# Altium integrated library BB Isolation Amplifier.IntLib: 29 symbols
Pins are listed as number, name and electrical type; pins without a type are passive.

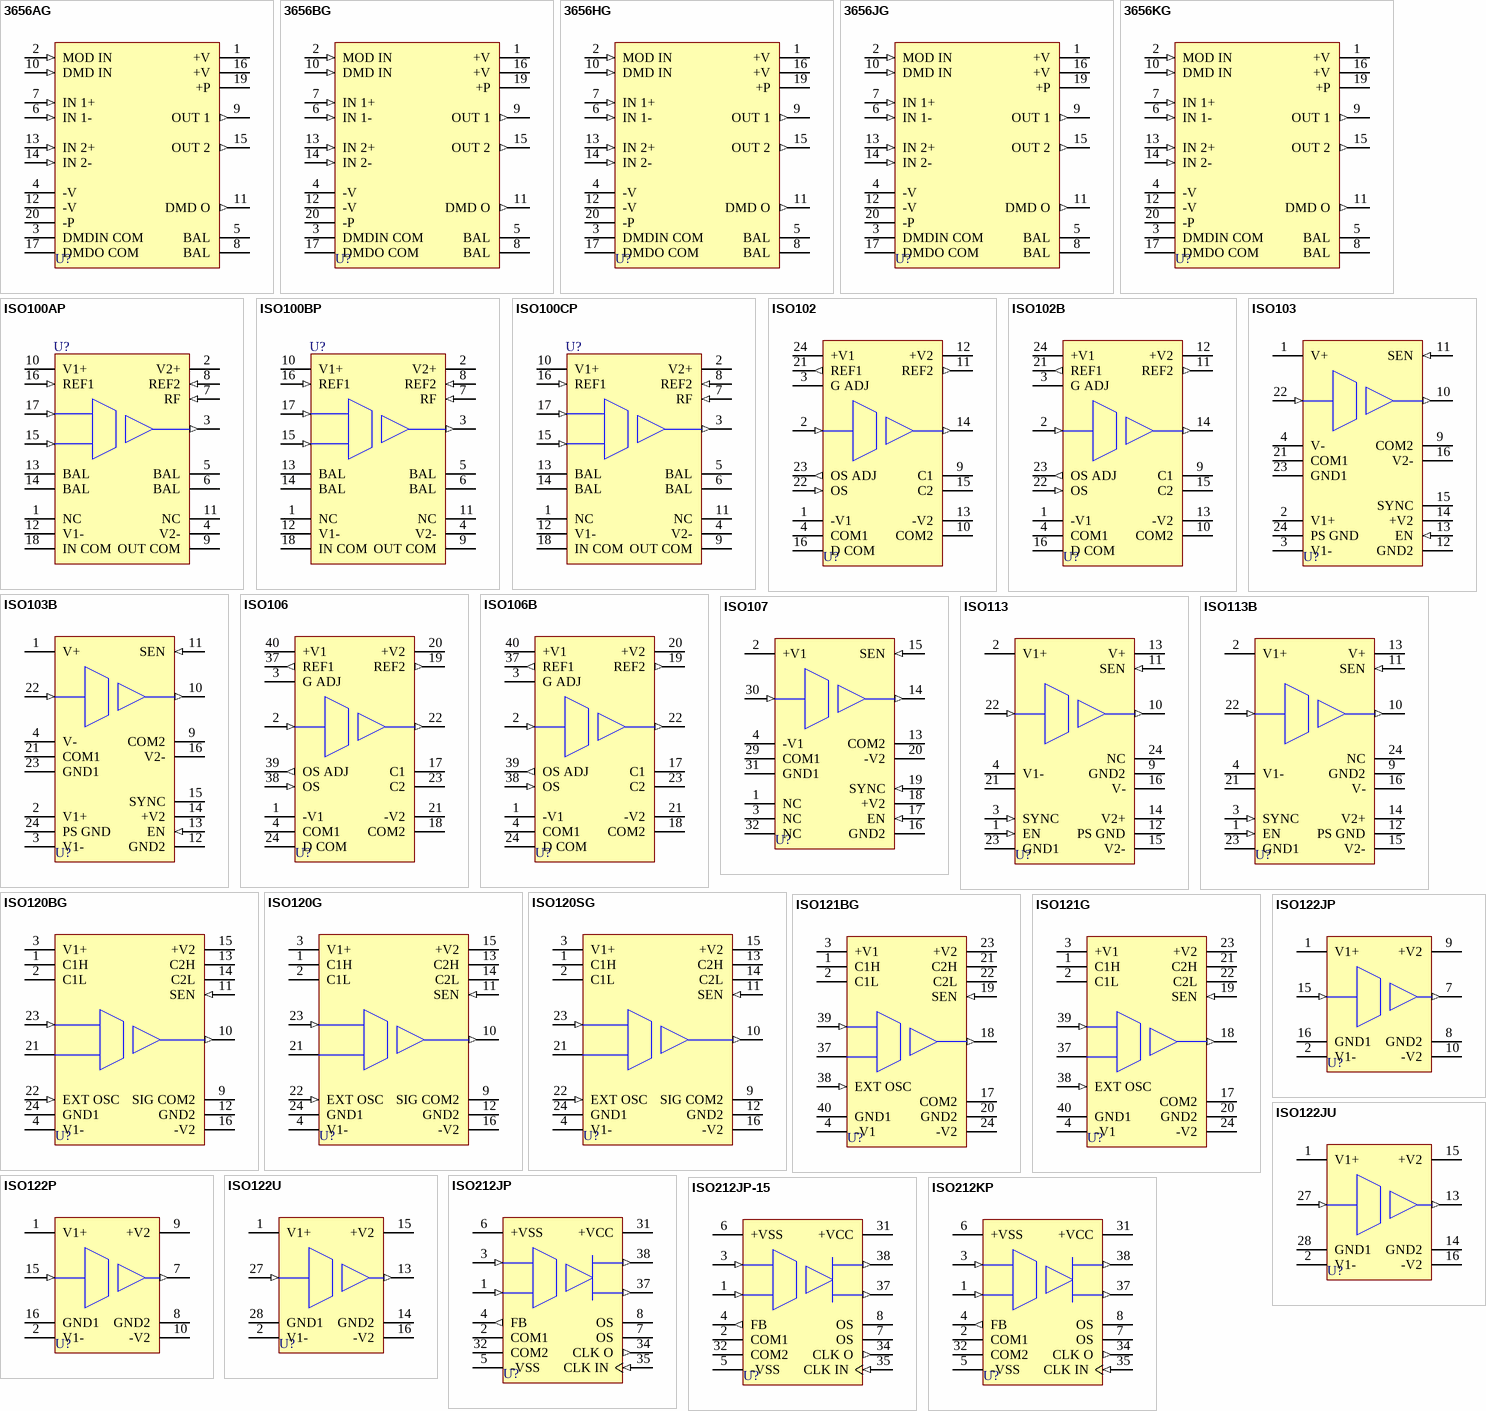
[diagram p0: symbols 3656AG to ISO212KP]

## 3656AG
designator U?
Transformer Coupled Isolation Amplifier; Note: No pin present at position 18.; Published: 8-Jun-2000; LatestRevisionDate: 17-Jul-2002; LatestRevisionNote: Re-released for DXP Platform.; DatasheetVersion: Jan-1997; PackageVersion: revA; PackageReference: ZZ102; Publisher: Altium Limited; PackageDescription: DIP; 20 Round Pins; Row Space 22.86 mm; Pitch 2.54 mm; ComponentLink1Description: Manufacturer Link; ComponentLink1URL: http://www.ti.com/
footprint ZZ102 (DIP; 20 Round Pins; Row Space 22.86 mm; Pitch 2.54 mm)
pins: 1 +V (power), 2 MOD IN (in), 3 DMDIN COM (power), 4 -V (power), 5 BAL, 6 IN 1- (in), 7 IN 1+ (in), 8 BAL, 9 OUT 1 (out), 10 DMD IN (in), 11 DMD O (out), 12 -V (power), 13 IN 2+ (in), 14 IN 2- (in), 15 OUT 2 (out), 16 +V (power), 17 DMDO COM (power), 19 +P (power), 20 -P (power)

## 3656BG
designator U?
Transformer Coupled Isolation Amplifier; Note: No pin present at position 18.; Published: 8-Jun-2000; LatestRevisionDate: 17-Jul-2002; LatestRevisionNote: Re-released for DXP Platform.; DatasheetVersion: Jan-1997; PackageVersion: revA; PackageReference: ZZ102; Publisher: Altium Limited; PackageDescription: DIP; 20 Round Pins; Row Space 22.86 mm; Pitch 2.54 mm; ComponentLink1Description: Manufacturer Link; ComponentLink1URL: http://www.ti.com/
footprint ZZ102 (DIP; 20 Round Pins; Row Space 22.86 mm; Pitch 2.54 mm)
pins: 1 +V (power), 2 MOD IN (in), 3 DMDIN COM (power), 4 -V (power), 5 BAL, 6 IN 1- (in), 7 IN 1+ (in), 8 BAL, 9 OUT 1 (out), 10 DMD IN (in), 11 DMD O (out), 12 -V (power), 13 IN 2+ (in), 14 IN 2- (in), 15 OUT 2 (out), 16 +V (power), 17 DMDO COM (power), 19 +P (power), 20 -P (power)

## 3656HG
designator U?
Transformer Coupled Isolation Amplifier; Note: No pin present at position 18.; Published: 8-Jun-2000; LatestRevisionDate: 17-Jul-2002; LatestRevisionNote: Re-released for DXP Platform.; DatasheetVersion: Jan-1997; PackageVersion: revA; PackageReference: ZZ102; Publisher: Altium Limited; PackageDescription: DIP; 20 Round Pins; Row Space 22.86 mm; Pitch 2.54 mm; ComponentLink1Description: Manufacturer Link; ComponentLink1URL: http://www.ti.com/
footprint ZZ102 (DIP; 20 Round Pins; Row Space 22.86 mm; Pitch 2.54 mm)
pins: 1 +V (power), 2 MOD IN (in), 3 DMDIN COM (power), 4 -V (power), 5 BAL, 6 IN 1- (in), 7 IN 1+ (in), 8 BAL, 9 OUT 1 (out), 10 DMD IN (in), 11 DMD O (out), 12 -V (power), 13 IN 2+ (in), 14 IN 2- (in), 15 OUT 2 (out), 16 +V (power), 17 DMDO COM (power), 19 +P (power), 20 -P (power)

## 3656JG
designator U?
Transformer Coupled Isolation Amplifier; Note: No pin present at position 18.; Published: 8-Jun-2000; LatestRevisionDate: 17-Jul-2002; LatestRevisionNote: Re-released for DXP Platform.; DatasheetVersion: Jan-1997; PackageVersion: revA; PackageReference: ZZ102; Publisher: Altium Limited; PackageDescription: DIP; 20 Round Pins; Row Space 22.86 mm; Pitch 2.54 mm; ComponentLink1Description: Manufacturer Link; ComponentLink1URL: http://www.ti.com/
footprint ZZ102 (DIP; 20 Round Pins; Row Space 22.86 mm; Pitch 2.54 mm)
pins: 1 +V (power), 2 MOD IN (in), 3 DMDIN COM (power), 4 -V (power), 5 BAL, 6 IN 1- (in), 7 IN 1+ (in), 8 BAL, 9 OUT 1 (out), 10 DMD IN (in), 11 DMD O (out), 12 -V (power), 13 IN 2+ (in), 14 IN 2- (in), 15 OUT 2 (out), 16 +V (power), 17 DMDO COM (power), 19 +P (power), 20 -P (power)

## 3656KG
designator U?
Transformer Coupled Isolation Amplifier; Note: No pin present at position 18.; Published: 8-Jun-2000; LatestRevisionDate: 17-Jul-2002; LatestRevisionNote: Re-released for DXP Platform.; DatasheetVersion: Jan-1997; PackageVersion: revA; PackageReference: ZZ102; Publisher: Altium Limited; PackageDescription: DIP; 20 Round Pins; Row Space 22.86 mm; Pitch 2.54 mm; ComponentLink1Description: Manufacturer Link; ComponentLink1URL: http://www.ti.com/
footprint ZZ102 (DIP; 20 Round Pins; Row Space 22.86 mm; Pitch 2.54 mm)
pins: 1 +V (power), 2 MOD IN (in), 3 DMDIN COM (power), 4 -V (power), 5 BAL, 6 IN 1- (in), 7 IN 1+ (in), 8 BAL, 9 OUT 1 (out), 10 DMD IN (in), 11 DMD O (out), 12 -V (power), 13 IN 2+ (in), 14 IN 2- (in), 15 OUT 2 (out), 16 +V (power), 17 DMDO COM (power), 19 +P (power), 20 -P (power)

## ISO100AP
designator U?
Optically-Coupled Linear Isolation Amplifier; Note: Pins 1 and 11 are No Connect (NC) pins.; Published: 8-Jun-2000; LatestRevisionDate: 17-Jul-2002; LatestRevisionNote: Re-released for DXP Platform.; DatasheetVersion: Aug-1997; PackageVersion: revC; PackageReference: ZZ220; Publisher: Altium Limited; PackageDescription: DIP; 18 Rectangular Pins; Row Space 7.62 mm; Pitch 2.54 mm; ComponentLink1Description: Manufacturer Link; ComponentLink1URL: http://www.ti.com/; ComponentLink2Description: Datasheet; ComponentLink2URL: http://www-s.ti.com/sc/ds/ISO100.pdf
footprint ZZ220 (DIP; 18 Rectangular Pins; Row Space 7.62 mm; Pitch 2.54 mm)
pins: 1 NC, 2 V2+ (power), 3 OUT (out), 4 V2- (power), 5 BAL, 6 BAL, 7 RF (in), 8 REF2 (in), 9 OUT COM (power), 10 V1+ (power), 11 NC, 12 V1- (power), 13 BAL, 14 BAL, 15 IN+ (in), 16 REF1 (in), 17 IN- (in), 18 IN COM (power)

## ISO100BP
designator U?
Optically-Coupled Linear Isolation Amplifier; Note: Pins 1 and 11 are No Connect (NC) pins.; Published: 8-Jun-2000; LatestRevisionDate: 17-Jul-2002; LatestRevisionNote: Re-released for DXP Platform.; DatasheetVersion: Aug-1997; PackageVersion: revC; PackageReference: ZZ220; Publisher: Altium Limited; PackageDescription: DIP; 18 Rectangular Pins; Row Space 7.62 mm; Pitch 2.54 mm; ComponentLink1Description: Manufacturer Link; ComponentLink1URL: http://www.ti.com/; ComponentLink2Description: Datasheet; ComponentLink2URL: http://www-s.ti.com/sc/ds/ISO100.pdf
footprint ZZ220 (DIP; 18 Rectangular Pins; Row Space 7.62 mm; Pitch 2.54 mm)
pins: 1 NC, 2 V2+ (power), 3 OUT (out), 4 V2- (power), 5 BAL, 6 BAL, 7 RF (in), 8 REF2 (in), 9 OUT COM (power), 10 V1+ (power), 11 NC, 12 V1- (power), 13 BAL, 14 BAL, 15 IN+ (in), 16 REF1 (in), 17 IN- (in), 18 IN COM (power)

## ISO100CP
designator U?
Optically-Coupled Linear Isolation Amplifier; Note: Pins 1 and 11 are No Connect (NC) pins.; Published: 8-Jun-2000; LatestRevisionDate: 17-Jul-2002; LatestRevisionNote: Re-released for DXP Platform.; DatasheetVersion: Aug-1997; PackageVersion: revC; PackageReference: ZZ220; Publisher: Altium Limited; PackageDescription: DIP; 18 Rectangular Pins; Row Space 7.62 mm; Pitch 2.54 mm; ComponentLink1Description: Manufacturer Link; ComponentLink1URL: http://www.ti.com/; ComponentLink2Description: Datasheet; ComponentLink2URL: http://www-s.ti.com/sc/ds/ISO100.pdf
footprint ZZ220 (DIP; 18 Rectangular Pins; Row Space 7.62 mm; Pitch 2.54 mm)
pins: 1 NC, 2 V2+ (power), 3 OUT (out), 4 V2- (power), 5 BAL, 6 BAL, 7 RF (in), 8 REF2 (in), 9 OUT COM (power), 10 V1+ (power), 11 NC, 12 V1- (power), 13 BAL, 14 BAL, 15 IN+ (in), 16 REF1 (in), 17 IN- (in), 18 IN COM (power)

## ISO102
designator U?
Signal Isolation Buffer Amplifier; Note: No pins present at positions 5 to 8 and 17 to 20.; Published: 8-Jun-2000; LatestRevisionDate: 06-Jun-2005; LatestRevisionNote: Stylized 3D Model Added.; DatasheetVersion: Jan-1995; PackageVersion: revC; PackageReference: 208C; Publisher: Altium Limited; PackageDescription: DIP; 24 Leads (8 Absent); Row Spacing 15.24 mm; Pitch 2.54 mm; ComponentLink1Description: Manufacturer Link; ComponentLink1URL: http://www.ti.com/; ComponentLink2Description: Datasheet; ComponentLink2URL: http://www-s.ti.com/sc/ds/ISO102.pdf
footprint 208C (DIP; 24 Leads (8 Absent); Row Spacing 15.24 mm; Pitch 2.54 mm)
3D model 208 (DIP; 24 Leads (8 Absent); Row Spacing 15.24 mm; Pitch 2.54 mm)
pins: 1 -V1 (power), 2 IN (in), 3 G ADJ, 4 COM1 (power), 9 C1, 10 COM2 (power), 11 REF2 (out), 12 +V2 (power), 13 -V2 (power), 14 OUT (out), 15 C2, 16 D COM (power), 21 REF1 (out), 22 OS (in), 23 OS ADJ (out), 24 +V1 (power)

## ISO102B
designator U?
Signal Isolation Buffer Amplifier; Note: No pins present at positions 5 to 8 and 17 to 20.; Published: 8-Jun-2000; LatestRevisionDate: 06-Jun-2005; LatestRevisionNote: Stylized 3D Model Added.; DatasheetVersion: Jan-1995; PackageVersion: revC; PackageReference: 208C; Publisher: Altium Limited; PackageDescription: DIP; 24 Leads (8 Absent); Row Spacing 15.24 mm; Pitch 2.54 mm; ComponentLink1Description: Manufacturer Link; ComponentLink1URL: http://www.ti.com/; ComponentLink2Description: Datasheet; ComponentLink2URL: http://www-s.ti.com/sc/ds/ISO102.pdf
footprint 208C (DIP; 24 Leads (8 Absent); Row Spacing 15.24 mm; Pitch 2.54 mm)
3D model 208 (DIP; 24 Leads (8 Absent); Row Spacing 15.24 mm; Pitch 2.54 mm)
pins: 1 -V1 (power), 2 IN (in), 3 G ADJ, 4 COM1 (power), 9 C1, 10 COM2 (power), 11 REF2 (out), 12 +V2 (power), 13 -V2 (power), 14 OUT (out), 15 C2, 16 D COM (power), 21 REF1 (out), 22 OS (in), 23 OS ADJ (out), 24 +V1 (power)

## ISO103
designator U?
Low-Cost, Internally Powered Isolation Amplifier; Note: No pins present at positions 5 to 8 and 17 to 20.; Published: 8-Jun-2000; LatestRevisionDate: 06-Jun-2005; LatestRevisionNote: Stylized 3D Model Added.; DatasheetVersion: Aug-1999; PackageVersion: revE; PackageReference: 231E; Publisher: Altium Limited; PackageDescription: DIP; 24 Leads (8 Absent); Row Spacing 15.24 mm; Pitch 2.54 mm; ComponentLink1Description: Manufacturer Link; ComponentLink1URL: http://www.ti.com/; ComponentLink2Description: Datasheet; ComponentLink2URL: http://www-s.ti.com/sc/ds/ISO103.pdf
footprint 231E (DIP; 24 Leads (8 Absent); Row Spacing 15.24 mm; Pitch 2.54 mm)
3D model 231E (DIP; 24 Leads (8 Absent); Row Spacing 15.24 mm; Pitch 2.54 mm)
pins: 1 V+ (power), 2 V1+ (power), 3 V1- (power), 4 V- (power), 9 COM2 (power), 10 OUT (out), 11 SEN (in), 12 GND2 (power), 13 EN (in), 14 +V2 (power), 15 SYNC, 16 V2- (power), 21 COM1 (power), 22 IN (in), 23 GND1 (power), 24 PS GND (power)

## ISO103B
designator U?
Low-Cost, Internally Powered Isolation Amplifier; Note: No pins present at positions 5 to 8 and 17 to 20.; ComponentAvailability: Not for New Design; Published: 8-Jun-2000; LatestRevisionDate: 06-Jun-2005; LatestRevisionNote: Stylized 3D Model Added.; DatasheetVersion: 1994; PackageVersion: revE; PackageReference: 231E; Publisher: Altium Limited; PackageDescription: DIP; 24 Leads (8 Absent); Row Spacing 15.24 mm; Pitch 2.54 mm; ComponentLink1Description: Manufacturer Link; ComponentLink1URL: http://www.ti.com/; ComponentLink2Description: Datasheet; ComponentLink2URL: http://www-s.ti.com/sc/ds/iso103.pdf
footprint 231E (DIP; 24 Leads (8 Absent); Row Spacing 15.24 mm; Pitch 2.54 mm)
3D model 231E (DIP; 24 Leads (8 Absent); Row Spacing 15.24 mm; Pitch 2.54 mm)
pins: 1 V+ (power), 2 V1+ (power), 3 V1- (power), 4 V- (power), 9 COM2 (power), 10 OUT (out), 11 SEN (in), 12 GND2 (power), 13 EN (in), 14 +V2 (power), 15 SYNC, 16 V2- (power), 21 COM1 (power), 22 IN (in), 23 GND1 (power), 24 PS GND (power)

## ISO106
designator U?
Signal Isolation Buffer Amplifier; Note: No pins present at positions 5 to 16 and 25 to 36.; Published: 8-Jun-2000; LatestRevisionDate: 06-Jun-2005; LatestRevisionNote: Stylized 3D Model Added.; DatasheetVersion: Jan-1995; PackageVersion: revC; PackageReference: ZZ206; Publisher: Altium Limited; PackageDescription: DIP; 40 Leads (24 Absent); Row Spacing 15.24 mm; Pitch 2.54 mm; Code_JEDEC: MO-038-AC*; ComponentLink1Description: Manufacturer Link; ComponentLink1URL: http://www.ti.com/; ComponentLink2Description: Datasheet; ComponentLink2URL: http://www-s.ti.com/sc/ds/ISO102.pdf
footprint ZZ206 (DIP; 40 Leads (24 Absent); Row Spacing 15.24 mm; Pitch 2.54 mm)
3D model ZZ206 (DIP; 40 Leads (24 Absent); Row Spacing 15.24 mm; Pitch 2.54 mm)
pins: 1 -V1 (power), 2 IN (in), 3 G ADJ, 4 COM1 (power), 17 C1, 18 COM2 (power), 19 REF2 (out), 20 +V2 (power), 21 -V2 (power), 22 OUT (out), 23 C2, 24 D COM (power), 37 REF1 (out), 38 OS (in), 39 OS ADJ (out), 40 +V1 (power)

## ISO106B
designator U?
Signal Isolation Buffer Amplifier; Note: No pins present at positions 5 to 16 and 25 to 36.; Published: 8-Jun-2000; LatestRevisionDate: 06-Jun-2005; LatestRevisionNote: Stylized 3D Model Added.; DatasheetVersion: Jan-1995; PackageVersion: revC; PackageReference: ZZ206; Publisher: Altium Limited; PackageDescription: DIP; 40 Leads (24 Absent); Row Spacing 15.24 mm; Pitch 2.54 mm; Code_JEDEC: MO-038-AC*; ComponentLink1Description: Manufacturer Link; ComponentLink1URL: http://www.ti.com/; ComponentLink2Description: Datasheet; ComponentLink2URL: http://www-s.ti.com/sc/ds/ISO102.pdf
footprint ZZ206 (DIP; 40 Leads (24 Absent); Row Spacing 15.24 mm; Pitch 2.54 mm)
3D model ZZ206 (DIP; 40 Leads (24 Absent); Row Spacing 15.24 mm; Pitch 2.54 mm)
pins: 1 -V1 (power), 2 IN (in), 3 G ADJ, 4 COM1 (power), 17 C1, 18 COM2 (power), 19 REF2 (out), 20 +V2 (power), 21 -V2 (power), 22 OUT (out), 23 C2, 24 D COM (power), 37 REF1 (out), 38 OS (in), 39 OS ADJ (out), 40 +V1 (power)

## ISO107
designator U?
High-Voltage, Internally Powered Isolation Amplifier; Note: Pins 1,3 and 32 are No internal Connection (NC) pins. No pins present at positions 5 to 12 and 21 to 28.; Published: 8-Jun-2000; LatestRevisionDate: 06-Jun-2005; LatestRevisionNote: Stylized 3D Model Added.; DatasheetVersion: Oct-1993; PackageVersion: revE; PackageReference: ZZ210; Publisher: Altium Limited; PackageDescription: DIP; 32 Leads (16 Absent); Row Spacing 22.86 mm; Pitch 2.54 mm; ComponentLink1Description: Manufacturer Link; ComponentLink1URL: http://www.ti.com/; ComponentLink2Description: Datasheet; ComponentLink2URL: http://www-s.ti.com/sc/ds/ISO107.pdf
footprint ZZ210 (DIP; 32 Leads (16 Absent); Row Spacing 22.86 mm; Pitch 2.54 mm)
3D model ZZ210 (DIP; 32 Leads (16 Absent); Row Spacing 22.86 mm; Pitch 2.54 mm)
pins: 1 NC, 2 +V1 (power), 3 NC, 4 -V1 (power), 13 COM2 (power), 14 OUT (out), 15 SEN (in), 16 GND2 (power), 17 EN (in), 18 +V2 (power), 19 SYNC (in), 20 -V2 (power), 29 COM1 (power), 30 IN (in), 31 GND1 (power), 32 NC

## ISO113
designator U?
Low-Cost, High-Voltage, Internally Powered Output Isolation Amplifier; Note: No pins present at positions 5 to 8 and 17 to 20. Pin 24 is not connected; Published: 8-Jun-2000; LatestRevisionDate: 06-Jun-2005; LatestRevisionNote: Stylized 3D Model Added.; DatasheetVersion: Aug-1999; PackageVersion: revE; PackageReference: 231E; Publisher: Altium Limited; PackageDescription: DIP; 24 Leads (8 Absent); Row Spacing 15.24 mm; Pitch 2.54 mm; ComponentLink1Description: Manufacturer Link; ComponentLink1URL: http://www.ti.com/; ComponentLink2Description: Datasheet; ComponentLink2URL: http://www-s.ti.com/sc/ds/ISO113.pdf
footprint 231E (DIP; 24 Leads (8 Absent); Row Spacing 15.24 mm; Pitch 2.54 mm)
3D model 231E (DIP; 24 Leads (8 Absent); Row Spacing 15.24 mm; Pitch 2.54 mm)
pins: 1 EN (in), 2 V1+ (power), 3 SYNC (in), 4 V1- (power), 9 GND2 (power), 10 OUT (out), 11 SEN (in), 12 PS GND (power), 13 V+ (power), 14 V2+ (power), 15 V2- (power), 16 V- (power), 21 COM1 (power), 22 IN (in), 23 GND1 (power), 24 NC

## ISO113B
designator U?
Low-Cost, High-Voltage, Internally Powered Output Isolation Amplifier; Note: No pins present at positions 5 to 8 and 17 to 20. Pin 24 is not connected; ComponentAvailability: Not for New Design; Published: 8-Jun-2000; LatestRevisionDate: 06-Jun-2005; LatestRevisionNote: Stylized 3D Model Added.; DatasheetVersion: 1994; PackageVersion: revE; PackageReference: 231E; Publisher: Altium Limited; PackageDescription: DIP; 24 Leads (8 Absent); Row Spacing 15.24 mm; Pitch 2.54 mm; ComponentLink1Description: Manufacturer Link; ComponentLink1URL: http://www.ti.com/; ComponentLink2Description: Datasheet; ComponentLink2URL: http://www-s.ti.com/sc/ds/iso113.pdf
footprint 231E (DIP; 24 Leads (8 Absent); Row Spacing 15.24 mm; Pitch 2.54 mm)
3D model 231E (DIP; 24 Leads (8 Absent); Row Spacing 15.24 mm; Pitch 2.54 mm)
pins: 1 EN (in), 2 V1+ (power), 3 SYNC (in), 4 V1- (power), 9 GND2 (power), 10 OUT (out), 11 SEN (in), 12 PS GND (power), 13 V+ (power), 14 V2+ (power), 15 V2- (power), 16 V- (power), 21 COM1 (power), 22 IN (in), 23 GND1 (power), 24 NC

## ISO120BG
designator U?
Precision Low-Cost Isolation Amplifier; Note: Pins 5 to 8 and 17 to 20 are not present; Published: 8-Jun-2000; LatestRevisionDate: 06-Jun-2005; LatestRevisionNote: Stylized 3D Model Added.; DatasheetVersion: Mar-1992; PackageVersion: revE; PackageReference: 225E; Publisher: Altium Limited; PackageDescription: DIP; 24 Leads (8 Absent); Row Spacing 7.62 mm; Pitch 2.54 mm; ComponentLink1Description: Manufacturer Link; ComponentLink1URL: http://www.ti.com/; ComponentLink2Description: Datasheet; ComponentLink2URL: http://www-s.ti.com/sc/ds/ISO120.pdf
footprint 225E (DIP; 24 Leads (8 Absent); Row Spacing 7.62 mm; Pitch 2.54 mm)
3D model 225 (DIP; 24 Leads (8 Absent); Row Spacing 7.62 mm; Pitch 2.54 mm)
simulation model ISO120X (SUBCKT)
pins: 1 C1H, 2 C1L, 3 V1+ (power), 4 V1- (power), 9 SIG COM2 (power), 10 OUT (out), 11 SEN (in), 12 GND2 (power), 13 C2H, 14 C2L, 15 +V2 (power), 16 -V2 (power), 21 SIG COM1 (power), 22 EXT OSC (in), 23 IN (in), 24 GND1 (power)

## ISO120G
designator U?
Precision Low-Cost Isolated Amplifier; Note: Pins 5 to 8 and 17 to 20 are not present; Published: 8-Jun-2000; LatestRevisionDate: 06-Jun-2005; LatestRevisionNote: Stylized 3D Model Added.; DatasheetVersion: Mar-1992; PackageVersion: revE; PackageReference: 225E; Publisher: Altium Limited; PackageDescription: DIP; 24 Leads (8 Absent); Row Spacing 7.62 mm; Pitch 2.54 mm; ComponentLink1Description: Manufacturer Link; ComponentLink1URL: http://www.ti.com/; ComponentLink2Description: Datasheet; ComponentLink2URL: http://www-s.ti.com/sc/ds/ISO120.pdf
footprint 225E (DIP; 24 Leads (8 Absent); Row Spacing 7.62 mm; Pitch 2.54 mm)
3D model 225 (DIP; 24 Leads (8 Absent); Row Spacing 7.62 mm; Pitch 2.54 mm)
simulation model ISO120X (SUBCKT)
pins: 1 C1H, 2 C1L, 3 V1+ (power), 4 V1- (power), 9 SIG COM2 (power), 10 OUT (out), 11 SEN (in), 12 GND2 (power), 13 C2H, 14 C2L, 15 +V2 (power), 16 -V2 (power), 21 SIG COM1 (power), 22 EXT OSC (in), 23 IN (in), 24 GND1 (power)

## ISO120SG
designator U?
Precision Low-Cost Isolated Amplifier; Note: Pins 5 to 8 and 17 to 20 are not present; Published: 8-Jun-2000; LatestRevisionDate: 06-Jun-2005; LatestRevisionNote: Stylized 3D Model Added.; DatasheetVersion: Mar-1992; PackageVersion: revE; PackageReference: 225E; Publisher: Altium Limited; PackageDescription: DIP; 24 Leads (8 Absent); Row Spacing 7.62 mm; Pitch 2.54 mm; ComponentLink1Description: Manufacturer Link; ComponentLink1URL: http://www.ti.com/; ComponentLink2Description: Datasheet; ComponentLink2URL: http://www-s.ti.com/sc/ds/ISO120.pdf
footprint 225E (DIP; 24 Leads (8 Absent); Row Spacing 7.62 mm; Pitch 2.54 mm)
3D model 225 (DIP; 24 Leads (8 Absent); Row Spacing 7.62 mm; Pitch 2.54 mm)
simulation model ISO120X (SUBCKT)
pins: 1 C1H, 2 C1L, 3 V1+ (power), 4 V1- (power), 9 SIG COM2 (power), 10 OUT (out), 11 SEN (in), 12 GND2 (power), 13 C2H, 14 C2L, 15 +V2 (power), 16 -V2 (power), 21 SIG COM1 (power), 22 EXT OSC (in), 23 IN (in), 24 GND1 (power)

## ISO121BG
designator U?
Precision Low-Cost Isolated Amplifier; Note: No pins present at positions 5 to 16 and 25 to 36.; Published: 8-Jun-2000; LatestRevisionDate: 06-Jun-2005; LatestRevisionNote: Stylized 3D Model Added.; DatasheetVersion: Mar-1992; PackageVersion: revC; PackageReference: ZZ206; Publisher: Altium Limited; PackageDescription: DIP; 40 Leads (24 Absent); Row Spacing 15.24 mm; Pitch 2.54 mm; Code_JEDEC: MO-038-AC*; ComponentLink1Description: Manufacturer Link; ComponentLink1URL: http://www.ti.com/; ComponentLink2Description: Datasheet; ComponentLink2URL: http://www-s.ti.com/sc/ds/ISO120.pdf
footprint ZZ206 (DIP; 40 Leads (24 Absent); Row Spacing 15.24 mm; Pitch 2.54 mm)
3D model ZZ206 (DIP; 40 Leads (24 Absent); Row Spacing 15.24 mm; Pitch 2.54 mm)
simulation model ISO121X (SUBCKT)
pins: 1 C1H, 2 C1L, 3 +V1 (power), 4 -V1 (power), 17 COM2 (power), 18 OUT (out), 19 SEN (in), 20 GND2 (power), 21 C2H, 22 C2L, 23 +V2 (power), 24 -V2 (power), 37 COM1 (power), 38 EXT OSC (in), 39 IN (in), 40 GND1 (power)

## ISO121G
designator U?
Precision Low-Cost Isolated Amplifier; Note: No pins present at positions 5 to 16 and 25 to 36.; Published: 8-Jun-2000; LatestRevisionDate: 06-Jun-2005; LatestRevisionNote: Stylized 3D Model Added.; DatasheetVersion: Mar-1992; PackageVersion: revC; PackageReference: ZZ206; Publisher: Altium Limited; PackageDescription: DIP; 40 Leads (24 Absent); Row Spacing 15.24 mm; Pitch 2.54 mm; Code_JEDEC: MO-038-AC*; ComponentLink1Description: Manufacturer Link; ComponentLink1URL: http://www.ti.com/; ComponentLink2Description: Datasheet; ComponentLink2URL: http://www-s.ti.com/sc/ds/ISO120.pdf
footprint ZZ206 (DIP; 40 Leads (24 Absent); Row Spacing 15.24 mm; Pitch 2.54 mm)
3D model ZZ206 (DIP; 40 Leads (24 Absent); Row Spacing 15.24 mm; Pitch 2.54 mm)
simulation model ISO121X (SUBCKT)
pins: 1 C1H, 2 C1L, 3 +V1 (power), 4 -V1 (power), 17 COM2 (power), 18 OUT (out), 19 SEN (in), 20 GND2 (power), 21 C2H, 22 C2L, 23 +V2 (power), 24 -V2 (power), 37 COM1 (power), 38 EXT OSC (in), 39 IN (in), 40 GND1 (power)

## ISO122JP
designator U?
Precision Lowest Cost Isolation Amplifier; Note: No pins present at positions 3 to 6 and 11 to 14.; Published: 8-Jun-2000; LatestRevisionDate: 06-Jun-2005; LatestRevisionNote: Stylized 3D Model Added.; DatasheetVersion: Nov-1993; PackageVersion: revD; PackageReference: ZZ238; Publisher: Altium Limited; PackageDescription: DIP; 16 Leads (8 Absent); Row Spacing 7.62 mm; Pitch 2.54 mm; Code_JEDEC: MZ-001-BB; ComponentLink1Description: Manufacturer Link; ComponentLink1URL: http://www.ti.com/; ComponentLink2Description: Datasheet; ComponentLink2URL: http://www-s.ti.com/sc/ds/ISO122.pdf
footprint ZZ238 (DIP; 16 Leads (8 Absent); Row Spacing 7.62 mm; Pitch 2.54 mm)
3D model ZZ238 (DIP; 16 Leads (8 Absent); Row Spacing 7.62 mm; Pitch 2.54 mm)
pins: 1 V1+ (power), 2 V1- (power), 7 OUT (out), 8 GND2 (power), 9 +V2 (power), 10 -V2 (power), 15 IN (in), 16 GND1 (power)

## ISO122JU
designator U?
Precision Lowest Cost Isolation Amplifier; Note: No pins present at positions 3 to 12 and 17 to 26.; Published: 8-Jun-2000; LatestRevisionDate: 13-Apr-2006; LatestRevisionNote: IPC-7351 Footprint Added.; DatasheetVersion: Nov-1993; PackageReference: 217-1G; Publisher: Altium Limited; PackageDescription: 28-Pin (20 Absent) Small Outline Integrated Circuit 1.27 mm Pitch; ComponentLink1Description: Manufacturer Link; ComponentLink1URL: http://www.ti.com/; ComponentLink2Description: Datasheet; ComponentLink2URL: http://www-s.ti.com/sc/ds/ISO122.pdf
footprint 217-1G_N (SOIC, 28-Leads (20 Absent), Body 17.9x7.5 mm, Pitch 1.27mm, IPC Medium Density)
footprint 217-1G_L (SOIC, 28-Leads (20 Absent), Body 17.9x7.5 mm, Pitch 1.27mm, IPC High Density)
footprint 217-1G_M (SOIC, 28-Leads (20 Absent), Body 17.9x7.5 mm, Pitch 1.27mm, IPC Low Density)
3D model 217-1 (28-Pin (20 Absent) Small Outline Integrated Circuit 1.27 mm Pitch)
pins: 1 V1+ (power), 2 V1- (power), 13 OUT (out), 14 GND2 (power), 15 +V2 (power), 16 -V2 (power), 27 IN (in), 28 GND1 (power)

## ISO122P
designator U?
Precision Lowest Cost Isolation Amplifier; Note: No pins present at positions 3 to 6 and 11 to 14.; Published: 8-Jun-2000; LatestRevisionDate: 06-Jun-2005; LatestRevisionNote: Stylized 3D Model Added.; DatasheetVersion: Nov-1993; PackageVersion: revD; PackageReference: ZZ238; Publisher: Altium Limited; PackageDescription: DIP; 16 Leads (8 Absent); Row Spacing 7.62 mm; Pitch 2.54 mm; Code_JEDEC: MZ-001-BB; ComponentLink1Description: Manufacturer Link; ComponentLink1URL: http://www.ti.com/; ComponentLink2Description: Datasheet; ComponentLink2URL: http://www-s.ti.com/sc/ds/ISO122.pdf
footprint ZZ238 (DIP; 16 Leads (8 Absent); Row Spacing 7.62 mm; Pitch 2.54 mm)
3D model ZZ238 (DIP; 16 Leads (8 Absent); Row Spacing 7.62 mm; Pitch 2.54 mm)
pins: 1 V1+ (power), 2 V1- (power), 7 OUT (out), 8 GND2 (power), 9 +V2 (power), 10 -V2 (power), 15 IN (in), 16 GND1 (power)

## ISO122U
designator U?
Precision Lowest Cost Isolation Amplifier; Note: No pins present at positions 3 to 12 and 17 to 26.; Published: 8-Jun-2000; LatestRevisionDate: 13-Apr-2006; LatestRevisionNote: IPC-7351 Footprint Added.; DatasheetVersion: Nov-1993; PackageReference: 217-1G; Publisher: Altium Limited; PackageDescription: 28-Pin (20 Absent) Small Outline Integrated Circuit 1.27 mm Pitch; ComponentLink1Description: Manufacturer Link; ComponentLink1URL: http://www.ti.com/; ComponentLink2Description: Datasheet; ComponentLink2URL: http://www-s.ti.com/sc/ds/ISO122.pdf
footprint 217-1G_N (SOIC, 28-Leads (20 Absent), Body 17.9x7.5 mm, Pitch 1.27mm, IPC Medium Density)
footprint 217-1G_L (SOIC, 28-Leads (20 Absent), Body 17.9x7.5 mm, Pitch 1.27mm, IPC High Density)
footprint 217-1G_M (SOIC, 28-Leads (20 Absent), Body 17.9x7.5 mm, Pitch 1.27mm, IPC Low Density)
3D model 217-1 (28-Pin (20 Absent) Small Outline Integrated Circuit 1.27 mm Pitch)
pins: 1 V1+ (power), 2 V1- (power), 13 OUT (out), 14 GND2 (power), 15 +V2 (power), 16 -V2 (power), 27 IN (in), 28 GND1 (power)

## ISO212JP
designator U?
Low-Cost, Two-Port Isolated, 1500 Vrms Isolation Amplifier; Note: No pins present at positions 9 to 30, 33 and 36; Published: 8-Jun-2000; LatestRevisionDate: 17-Jul-2002; LatestRevisionNote: Re-released for DXP Platform.; DatasheetVersion: 1996~1997; PackageVersion: 1996/1997; PackageReference: 326B; Publisher: Altium Limited; PackageDescription: ZIP; 38 Leads (24 Absent); Row Space 2.54 mm; Pitch 1.27 mm; ComponentLink1Description: Manufacturer Link; ComponentLink1URL: http://www.ti.com/
footprint 326B (ZIP; 38 Leads (24 Absent); Row Space 2.54 mm; Pitch 1.27 mm)
pins: 1 IN+ (in), 2 COM1 (power), 3 IN- (in), 4 FB (out), 5 -VSS (power), 6 +VSS (power), 7 OS, 8 OS, 31 +VCC (power), 32 COM2 (power), 34 CLK O (out), 35 CLK IN (in), 37 OUT L (out), 38 OUT H (out)

## ISO212JP-15
designator U?
Low-Cost, Two-Port Isolated, 1500 Vrms Isolation Amplifier; Note: No pins present at positions 9 to 30, 33 and 36; Published: 8-Jun-2000; LatestRevisionDate: 17-Jul-2002; LatestRevisionNote: Re-released for DXP Platform.; DatasheetVersion: 1996~1997; PackageVersion: 1996/1997; PackageReference: 326B; Publisher: Altium Limited; PackageDescription: ZIP; 38 Leads (24 Absent); Row Space 2.54 mm; Pitch 1.27 mm; ComponentLink1Description: Manufacturer Link; ComponentLink1URL: http://www.ti.com/
footprint 326B (ZIP; 38 Leads (24 Absent); Row Space 2.54 mm; Pitch 1.27 mm)
pins: 1 IN+ (in), 2 COM1 (power), 3 IN- (in), 4 FB (out), 5 -VSS (power), 6 +VSS (power), 7 OS, 8 OS, 31 +VCC (power), 32 COM2 (power), 34 CLK O (out), 35 CLK IN (in), 37 OUT L (out), 38 OUT H (out)

## ISO212KP
designator U?
Low-Cost, Two-Port Isolated, 1500 Vrms Isolation Amplifier; Note: No pins present at positions 9 to 30, 33 and 36; Published: 8-Jun-2000; LatestRevisionDate: 17-Jul-2002; LatestRevisionNote: Re-released for DXP Platform.; DatasheetVersion: 1996~1997; PackageVersion: 1996/1997; PackageReference: 326B; Publisher: Altium Limited; PackageDescription: ZIP; 38 Leads (24 Absent); Row Space 2.54 mm; Pitch 1.27 mm; ComponentLink1Description: Manufacturer Link; ComponentLink1URL: http://www.ti.com/
footprint 326B (ZIP; 38 Leads (24 Absent); Row Space 2.54 mm; Pitch 1.27 mm)
pins: 1 IN+ (in), 2 COM1 (power), 3 IN- (in), 4 FB (out), 5 -VSS (power), 6 +VSS (power), 7 OS, 8 OS, 31 +VCC (power), 32 COM2 (power), 34 CLK O (out), 35 CLK IN (in), 37 OUT L (out), 38 OUT H (out)